# EAGLE library part 2X3_PIN (library MM_CONN)
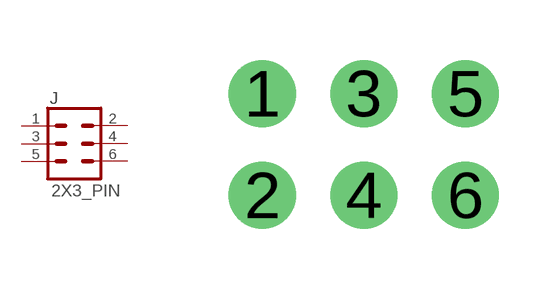
[diagram p0: symbol with the pads of 2X3-NS; footprint 2X3-NS]

Designator prefix J

## 2X3_PIN  [2X3-NS]
1  1
2  2
3  3
4  4
5  5
6  6

## Footprint 2X3-NS (pad centres in mm)
Plated Through Hole - 2x3 No Silk Outline Specifications: Pin count:6 Pin pitch:0.1" Example device(s): CONN_03x2
drill 1.016 pad 1.676: 1 -2.54,1.27; 2 -2.54,-1.27; 3 0,1.27; 4 0,-1.27; 5 2.54,1.27; 6 2.54,-1.27